# EAGLE library part TOP242-250-T (library TOP-Switcher)
Extendet Power, Design Flexible. EcoSmart, Off-line Switcher ( 0...250W)
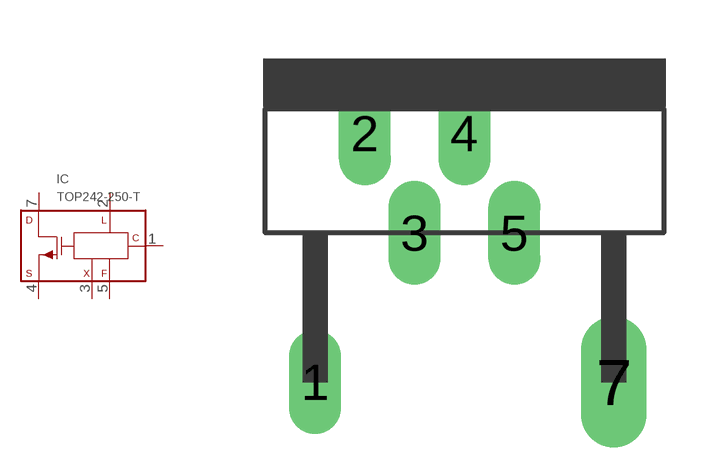
[diagram p6: symbol with the pads of TO220-7C; footprint TO220-7C]

Designator prefix IC

## TOP242-250-TO7C  [TO220-7C]
1  C
2  L
3  X
4  S
5  F
7  D

## Footprint TO220-7C (pad centres in mm)
drill 0.813 pad 1.27 long: 1 -3.81,-8.255; 2 -2.54,-1.905; 3 -1.27,-4.445; 4 0,-1.905; 5 1.27,-4.445
drill 0.813 pad 1.676 long: 7 3.81,-8.255